# Altium schematic symbol library Resistors.SchLib: 237 symbols (part 2 of 2)
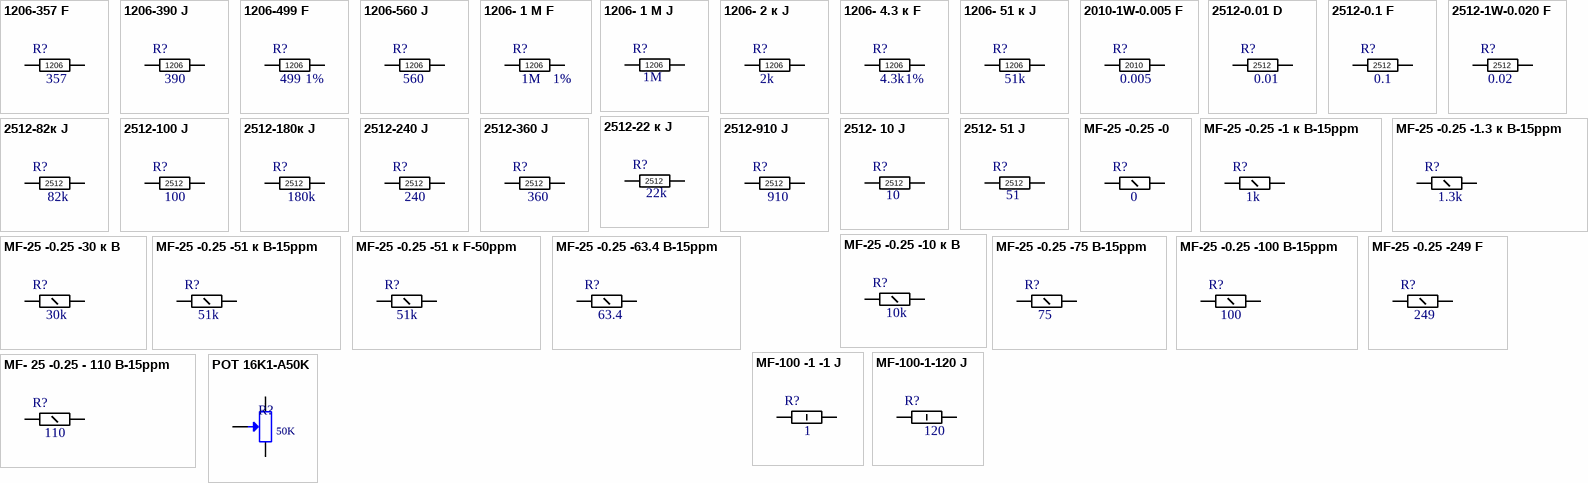
[diagram p6: symbols 1206-357 F to POT 16K1-A50K]

## 2512-910 J
designator R?  value 910  Foot: 2512  (hidden comment: 2512-910 J)
Резистор Чип; Power: 1W
footprint resistor_2512 (Chip Resistor, 2-Leads, Body 6,3x3,2mm, IPC Low Density)
pins: 1, 2

## 2512- 10 J
designator R?  value 10  Foot: 2512  (hidden comment: 2512- 10 J)
Резистор Чип; Power: 1W; Price, $: 0.05
footprint resistor_2512 (Chip Resistor, 2-Leads, Body 6,3x3,2mm, IPC Low Density)
pins: 1, 2

## 2512- 51 J
designator R?  value 51  Foot: 2512  (hidden comment: 2512- 51 J)
Резистор Чип; Power: 1W; Price, $: 0.05
footprint resistor_2512 (Chip Resistor, 2-Leads, Body 6,3x3,2mm, IPC Low Density)
pins: 1, 2

## MF-25 -0.25 -0
designator R?, comment value 0  (hidden comment: Напаять перемычку)
Резистор Чип; Power: 0.25W
footprint resistor_MF-25
pins: 1, 2

## MF-25 -0.25 -1 к B-15ppm
designator R?  value 1k  (hidden comment: MF-25 -0.25 -1 к B-15ppm)
Резистор Чип; Power: 0.25W; Tolerance: 0.1%
footprint resistor_MF-25
pins: 1, 2

## MF-25 -0.25 -1.3 к B-15ppm
designator R?  value 1.3k  (hidden comment: MF-25 -0.25 -1.3 к B-15ppm)
Резистор Чип; Power: 0.25W; Tolerance: 0.1%
footprint resistor_MF-25
pins: 1, 2

## MF-25 -0.25 -10 к B
designator R?  value 10k  (hidden comment: MF-25 -0.25 -10 к B)
Резистор Чип; Power: 0.25W; Tolerance: 0.1%
footprint resistor_MF-25
pins: 1, 2

## MF-25 -0.25 -30 к B
designator R?  value 30k  (hidden comment: MF-25 -0.25 -30 к B)
Резистор Чип; Power: 0.25W; Tolerance: 0.1%
footprint resistor_MF-25
pins: 1, 2

## MF-25 -0.25 -51 к B-15ppm
designator R?  value 51k  (hidden comment: MF-25 -0.25 -51 к B-15ppm)
Резистор Чип; Power: 0.25W; Tolerance: 0.1%; Price, $: 0.15
footprint resistor_MF-25
pins: 1, 2

## MF-25 -0.25 -51 к F-50ppm
designator R?  value 51k  (hidden comment: MF-25 -0.25 -51 к F-50ppm)
Резистор Чип; Power: 0.25W; Tolerance: 1%
footprint resistor_MF-25
pins: 1, 2

## MF-25 -0.25 -63.4 B-15ppm
designator R?  value 63.4  (hidden comment: MF-25 -0.25 -63.4 B-15ppm)
Резистор Чип; Power: 0.25W; Tolerance: 0.1%
footprint resistor_MF-25
pins: 1, 2

## MF-25 -0.25 -75 B-15ppm
designator R?  value 75  (hidden comment: MF-25 -0.25 -75 B-15ppm)
Резистор Чип; Power: 0.25W; Tolerance: 0.1%
footprint resistor_MF-25
pins: 1, 2

## MF-25 -0.25 -100 B-15ppm
designator R?, comment value 100  (hidden comment: MF-25 -0.25 -100 B)
Резистор Чип; Power: 0.25W; Tolerance: 0.1%
footprint resistor_MF-25
pins: 1, 2

## MF-25 -0.25 -249 F
designator R?  value 249  (hidden comment: MF-25 -0.25 -249 F)
Резистор Чип; Power: 0.25W; Tolerance: 1%
footprint resistor_MF-25
pins: 1, 2

## MF-100 -1 -1 J
designator R?  value 1  (hidden comment: MF-100 -1 -1 J)
Резистор Чип; Power: 1W
footprint resistor_MF-100 _Vertical
pins: 1, 2

## MF-100-1-120 J
designator R?  value 120  (hidden comment: MF-100-1-120 J)
Резистор Чип; Power: 1W
footprint resistor_MF-100 _Vertical
pins: 1, 2

## MF- 25 -0.25 - 110 B-15ppm
designator R?  value 110  (hidden comment: MF- 25 -0.25 - 110 B-15ppm)
Резистор Чип; Power: 0.25W; Tolerance: 0.1%
footprint resistor_MF-25
pins: 1, 2

## POT 16K1-A50K
designator R?, comment value 50K  (hidden comment: 16K1-A50K)
L15KC, 50 кОм, Резистор переменный; Power: 1W; Price, $: 0.05
footprint RESISTOR_POT
pins: 1, 2, 3